# Altium schematic symbol library XAL8080.Schlib: 1 symbol
Pins are listed as number, name and electrical type; pins without a type are passive.

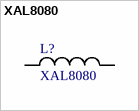
[diagram p0: symbol XAL8080]

## XAL8080
designator L?
Inductor
pins: 1, 2